# EAGLE library part F25HPS (library NewSDR)
SUB-D
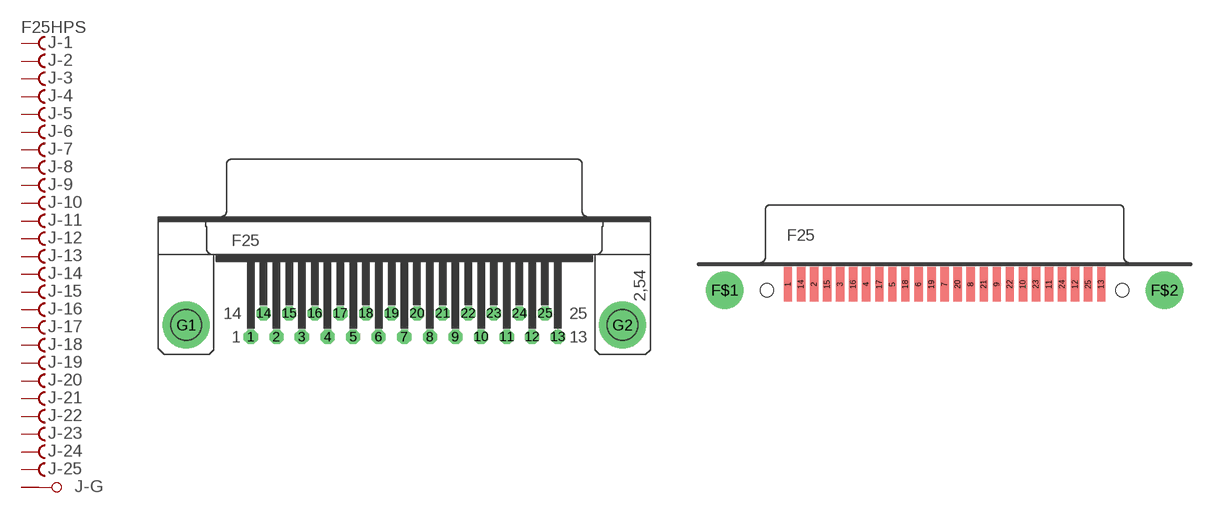
[diagram p10: symbol with the pads of F25HP; footprints F25HP, FS25HP]

Designator prefix J; gates -2=F -3=F -4=F -5=F -6=F -7=F -8=F -9=F -10=F -11=F -12=F -13=F -14=F -15=F -16=F -17=F -18=F -19=F -20=F -21=F -22=F -23=F -24=F -25=F -G=GND -1=FV

## F25HPS_TH  [F25HP]
1  -1:F  pas
2  -2:F  pas
3  -3:F  pas
4  -4:F  pas
5  -5:F  pas
6  -6:F  pas
7  -7:F  pas
8  -8:F  pas
9  -9:F  pas
10  -10:F  pas
11  -11:F  pas
12  -12:F  pas
13  -13:F  pas
14  -14:F  pas
15  -15:F  pas
16  -16:F  pas
17  -17:F  pas
18  -18:F  pas
19  -19:F  pas
20  -20:F  pas
21  -21:F  pas
22  -22:F  pas
23  -23:F  pas
24  -24:F  pas
25  -25:F  pas
G1  -G:G1  pas
G2  -G:G2  pas

## F25HPS_SM  [FS25HP]
1  -1:F  pas
2  -2:F  pas
3  -3:F  pas
4  -4:F  pas
5  -5:F  pas
6  -6:F  pas
7  -7:F  pas
8  -8:F  pas
9  -9:F  pas
10  -10:F  pas
11  -11:F  pas
12  -12:F  pas
13  -13:F  pas
14  -14:F  pas
15  -15:F  pas
16  -16:F  pas
17  -17:F  pas
18  -18:F  pas
19  -19:F  pas
20  -20:F  pas
21  -21:F  pas
22  -22:F  pas
23  -23:F  pas
24  -24:F  pas
25  -25:F  pas
F$1  -G:G1  pas
F$2  -G:G2  pas

## Footprint F25HP (pad centres in mm)
SUB-D
drill 1.016 octagon: 1 -16.561,-1.27; 2 -13.792,-1.27; 3 -11.049,-1.27; 4 -8.28,-1.27; 5 -5.512,-1.27; 6 -2.769,-1.27; 7 0,-1.27; 8 2.769,-1.27; 9 5.512,-1.27; 10 8.28,-1.27; 11 11.049,-1.27; 12 13.792,-1.27; 13 16.561,-1.27; 14 -15.189,1.27; 15 -12.421,1.27; 16 -9.652,1.27; 17 -6.909,1.27; 18 -4.14,1.27; 19 -1.372,1.27; 20 1.372,1.27; 21 4.14,1.27; 22 6.909,1.27; 23 9.652,1.27; 24 12.421,1.27; 25 15.189,1.27
drill 3.302 pad 5.08: G1 -23.52,0; G2 23.52,0

## Footprint FS25HP (pad centres in mm)
smd 0.889 x 3.708: 1 -16.764,-2.362; 2 -13.97,-2.362; 3 -11.176,-2.362; 4 -8.382,-2.362; 5 -5.588,-2.362; 6 -2.794,-2.362; 7 0,-2.362; 8 2.794,-2.362; 9 5.588,-2.362; 10 8.382,-2.362; 11 11.176,-2.362; 12 13.97,-2.362; 13 16.764,-2.362; 14 -15.367,-2.362; 15 -12.573,-2.362; 16 -9.779,-2.362; 17 -6.985,-2.362; 18 -4.191,-2.362; 19 -1.397,-2.362; 20 1.397,-2.362; 21 4.191,-2.362; 22 6.985,-2.362; 23 9.779,-2.362; 24 12.573,-2.362; 25 15.367,-2.362
drill 2.997: F$1 -23.52,-2.997; F$2 23.52,-2.997
hole 1.397 at -19.025,-2.997
hole 1.397 at 19.025,-2.997